# Altium footprint library Pieces.PcbLib: 3 footprints
Each footprint in its own frame and in the unit in brackets; x right, y up, seen from the top. Pads: shape width x height; smd on the part's side, far side on the other; paste and mask are expansions set on the pad; w line width, h text height; cw(c..) or ccw(c..) is an arc to the next point about the centre after c.
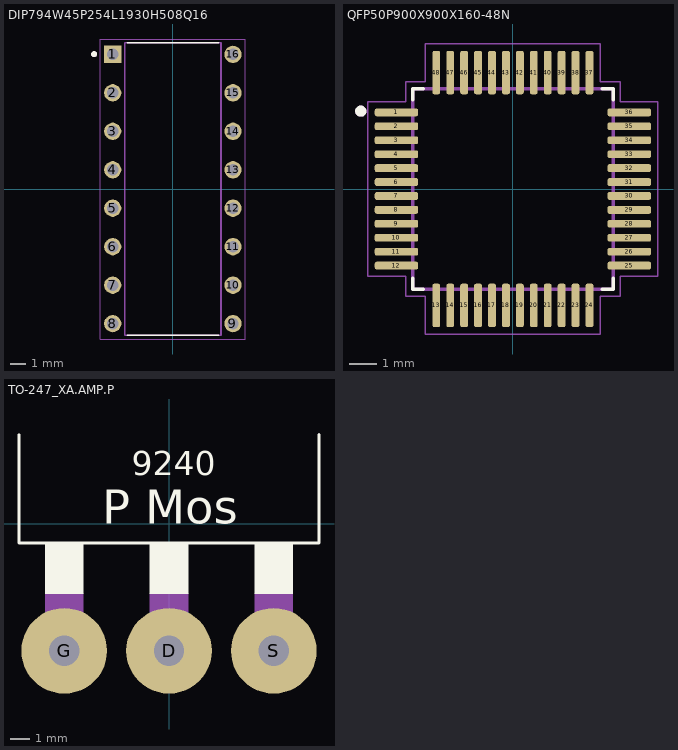
[diagram p0: the footprints below, top view; thin cyan lines are the x and y axes]

## DIP794W45P254L1930H508Q16 [mm]
height 5.08
pads (16):
  rect 1.14x1.14 / inner round 1.14 / far side rect 1.14x1.14 hole 0.74: 1(-3.97,8.89)
  round 1.14 hole 0.74: 2(-3.97,6.35) 3(-3.97,3.81) 4(-3.97,1.27) 5(-3.97,-1.27) 6(-3.97,-3.81) 7(-3.97,-6.35) 8(-3.97,-8.89) 9(3.97,-8.89) 10(3.97,-6.35) 11(3.97,-3.81) 12(3.97,-1.27) 13(3.97,1.27) 14(3.97,3.81) 15(3.97,6.35) 16(3.97,8.89)
Top Overlay:
  circle w0.2: c-5.2,8.9 r0.1
  lines w0.127: -3,-9.653 3,-9.653 ; -3,9.653 3,9.653
Mechanical 13:
  circle w0.2: c-5.2,8.9 r0.1
  lines w0.127: -3.175,-9.653 3.175,-9.653 3.175,9.653 -3.175,9.653 -3.175,-9.653
Mechanical 15:
  lines w0.05: -4.79,-9.902 4.79,-9.902 4.79,9.902 -4.79,9.902 -4.79,-9.902
3D body "step_temp.STEP": height 5.08, standoff -3.28, extent -3.845,-9.652 3.845,9.652

## QFP50P900X900X160-48N [mm]
pads (48):
  rrect50% 1.56x0.28 smd: 1(-4.18,2.75) 2(-4.18,2.25) 3(-4.18,1.75) 4(-4.18,1.25) 5(-4.18,0.75) 6(-4.18,0.25) 7(-4.18,-0.25) 8(-4.18,-0.75) 9(-4.18,-1.25) 10(-4.18,-1.75) 11(-4.18,-2.25) 12(-4.18,-2.75) 25(4.18,-2.75) 26(4.18,-2.25) 27(4.18,-1.75) 28(4.18,-1.25) 29(4.18,-0.75) 30(4.18,-0.25) 31(4.18,0.25) 32(4.18,0.75) 33(4.18,1.25) 34(4.18,1.75) 35(4.18,2.25) 36(4.18,2.75)
  rrect50% 0.28x1.56 smd: 13(-2.75,-4.18) 14(-2.25,-4.18) 15(-1.75,-4.18) 16(-1.25,-4.18) 17(-0.75,-4.18) 18(-0.25,-4.18) 19(0.25,-4.18) 20(0.75,-4.18) 21(1.25,-4.18) 22(1.75,-4.18) 23(2.25,-4.18) 24(2.75,-4.18) 37(2.75,4.18) 38(2.25,4.18) 39(1.75,4.18) 40(1.25,4.18) 41(0.75,4.18) 42(0.25,4.18) 43(-0.25,4.18) 44(-0.75,4.18) 45(-1.25,4.18) 46(-1.75,4.18) 47(-2.25,4.18) 48(-2.75,4.18)
Top Overlay:
  circle w0.2: c-5.461,2.794 r0.1
  lines w0.127: -3.6,-3.21 -3.6,-3.6 -3.21,-3.6 ; -3.6,3.21 -3.6,3.6 -3.21,3.6 ; 3.21,-3.6 3.6,-3.6 3.6,-3.21 ; 3.21,3.6 3.6,3.6 3.6,3.21
Mechanical 13:
  circle w0.2: c-5.461,2.794 r0.1
  lines w0.127: -3.6,-3.6 -3.6,3.6 3.6,3.6 3.6,-3.6 -3.6,-3.6
Mechanical 15:
  lines w0.05: -5.21,-3.14 -3.85,-3.14 -3.85,-3.85 -3.14,-3.85 -3.14,-5.21 3.14,-5.21 3.14,-3.85 3.85,-3.85 3.85,-3.14 5.21,-3.14 5.21,3.14 3.85,3.14 3.85,3.85 3.14,3.85 3.14,5.21 -3.14,5.21 -3.14,3.85 -3.85,3.85 -3.85,3.14 -5.21,3.14 -5.21,-3.14
3D body "step_temp.STEP": height 1.6, standoff 0, extent -4.5,-4.5 4.5,4.5

## TO-247_XA.AMP.P [mm]
pads (3):
  round 4.5 hole 1.6: D(0,-6.68) G(-5.5,-6.68) S(5.5,-6.68)
Top Overlay:
  region: -4.5,-3.68 -6.5,-3.68 -6.5,-1.03 -4.5,-1.03
  region: 1,-3.68 -1,-3.68 -1,-1.03 1,-1.03
  region: 6.5,-3.68 4.5,-3.68 4.5,-1.03 6.5,-1.03
  lines w0.152: -7.874,4.661 -7.874,-1.03 7.874,-1.03 7.874,4.685
  text "9240" at -1.95,2.54 h1.27
  text "P Mos" at -3.5,0 h1.78
Mechanical 13:
  region: 6.223,-6.68 4.75,-6.68 4.75,-5.713 6.223,-5.713
  region: 6.5,-5.713 4.5,-5.713 4.5,-3.681 6.5,-3.681
  region: 0.635,-6.68 -0.635,-6.68 -0.635,-5.713 0.635,-5.713
  region: 1,-5.713 -1,-5.713 -1,-3.681 1,-3.681
  region: -4.75,-6.68 -6.223,-6.68 -6.223,-5.713 -4.75,-5.713
  region: -4.5,-5.713 -6.5,-5.713 -6.5,-3.68 -4.5,-3.68
3D body "step_temp.STEP": height 35.1, standoff 0, extent -7.8,-2.3 7.8,2.7